# Altium schematic symbol library HerosLib.SchLib: 177 symbols (part 6 of 10)
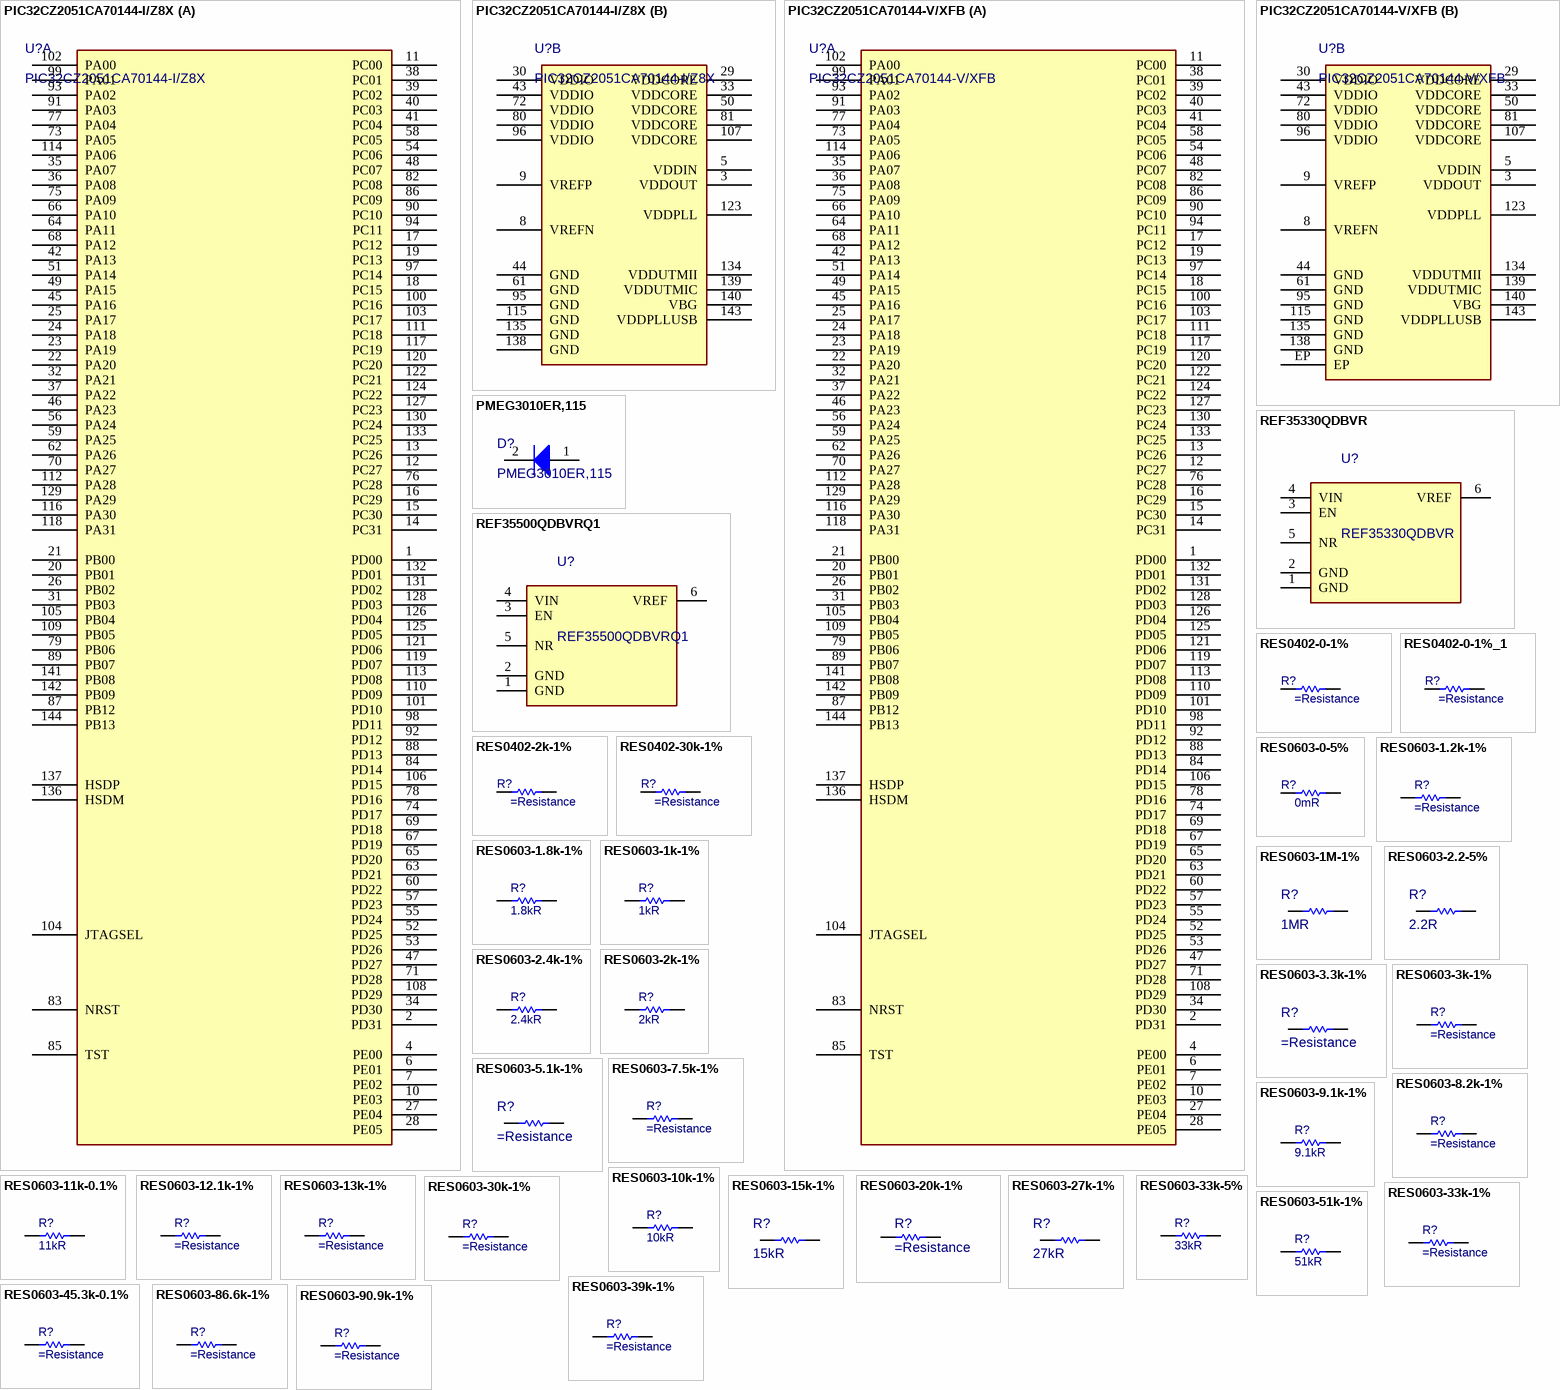
[diagram p13: symbols PIC32CZ2051CA70144-I/Z8X to RES0603-90.9k-1%]

## RES0603-1k-1%
designator R?, comment 1kR
RES SMD 1K OHM 1% 1/10W 0603; Manufacturer: Bourns; Manufacturer Part Number: CR0603-FX-1001ELF; Temperature Coefficient: 100ppm/°C; Voltage Rating (DC): 50V; Power Rating: 100mW; ComponentLink1URL: https://datasheet.ciiva.com/9122/chpreztr-9122363.pdf; ComponentLink1Description: https://datasheet.ciiva.com/9122/chpreztr-9122363.pdf; ComponentLink2URL: https://datasheet.ciiva.com/22713/691949-22713239.pdf?src-supplier=Element14; ComponentLink2Description: https://datasheet.ciiva.com/22713/691949-22713239.pdf?src-supplier=Element14; ComponentLink3URL: https://datasheet.ciiva.com/23776/1902866-23776391.pdf?src-supplier=Newark; ComponentLink3Description: https://datasheet.ciiva.com/23776/1902866-23776391.pdf?src-supplier=Newark; ComponentLink4URL: https://datasheet.ciiva.com/16766/70154685-16766760.pdf?src-supplier=Allied+Electronics; ComponentLink4Description: https://datasheet.ciiva.com/16766/70154685-16766760.pdf?src-supplier=Allied+Electronics; ComponentLink5URL: https://datasheet.ciiva.com/30229/159chpreztr-30229129.pdf?src-supplier=Onlinecomponents.com; ComponentLink5Description: https://datasheet.ciiva.com/30229/159chpreztr-30229129.pdf?src-supplier=Onlinecomponents.com; ComponentLink6URL: https://datasheet.ciiva.com/16935/chpreztr-16935963.pdf?src-supplier=Avnet+Europe; ComponentLink6Description: https://datasheet.ciiva.com/16935/chpreztr-16935963.pdf?src-supplier=Avnet+Europe; ComponentLink7URL: https://datasheet.ciiva.com/5543/chpreztr-5543676.pdf?src-supplier=Mouser; ComponentLink7Description: https://datasheet.ciiva.com/5543/chpreztr-5543676.pdf?src-supplier=Mouser; ComponentLink8URL: https://datasheet.ciiva.com/9120/chpreztr-9120764.pdf?src-supplier=Avnet; ComponentLink8Description: https://datasheet.ciiva.com/9120/chpreztr-9120764.pdf?src-supplier=Avnet; ComponentLink9URL: https://datasheet.ciiva.com/46383/1791942-46383790.pdf?src-supplier=Element14; ComponentLink9Description: https://datasheet.ciiva.com/46383/1791942-46383790.pdf?src-supplier=Element14; ComponentLink10URL: https://datasheet.ciiva.com/48692/001055501-da-01-en-smd-wid-cr0603-jw-104elf-100k-ohm-1-10w-48692133.pdf?src-supplier=Conrad; ComponentLink10Description: https://datasheet.ciiva.com/48692/001055501-da-01-en-smd-wid-cr0603-jw-104elf-100k-ohm-1-10w-48692133.pdf?src-supplier=Conrad; ComponentLink11URL: https://datasheet.ciiva.com/39121/775172-39121475.pdf?src-supplier=Jameco; ComponentLink11Description: https://datasheet.ciiva.com/39121/775172-39121475.pdf?src-supplier=Jameco; ComponentLink12URL: https://datasheet.ciiva.com/30052/159chpreztr-30052709.pdf?src-supplier=Onlinecomponents.com; ComponentLink12Description: https://datasheet.ciiva.com/30052/159chpreztr-30052709.pdf?src-supplier=Onlinecomponents.com; ComponentLink13URL: https://datasheet.ciiva.com/16935/chpreztr-16935910.pdf?src-supplier=Avnet+Europe; ComponentLink13Description: https://datasheet.ciiva.com/16935/chpreztr-16935910.pdf?src-supplier=Avnet+Europe; ComponentLink14URL: https://datasheet.ciiva.com/46383/1791942-46383767.pdf?src-supplier=Element14; ComponentLink14Description: https://datasheet.ciiva.com/46383/1791942-46383767.pdf?src-supplier=Element14; ComponentLink15URL: https://datasheet.ciiva.com/7986/1902866-7986185.pdf?src-supplier=Element14; ComponentLink15Description: https://datasheet.ciiva.com/7986/1902866-7986185.pdf?src-supplier=Element14; ComponentLink16URL: https://datasheet.ciiva.com/6547/chpreztr-6547278.pdf?src-supplier=Digi-Key; ComponentLink16Description: https://datasheet.ciiva.com/6547/chpreztr-6547278.pdf?src-supplier=Digi-Key; ComponentLink17URL: https://datasheet.ciiva.com/6547/chpreztr-6547279.pdf?src-supplier=Digi-Key; ComponentLink17Description: https://datasheet.ciiva.com/6547/chpreztr-6547279.pdf?src-supplier=Digi-Key; ComponentLink18URL: https://datasheet.ciiva.com/16757/70154685-16757477.pdf?src-supplier=Allied+Electronics; ComponentLink18Description: https://datasheet.ciiva.com/16757/70154685-16757477.pdf?src-supplier=Allied+Electronics; ComponentLink19URL: https://datasheet.ciiva.com/22713/691949-22713237.pdf?src-supplier=Element14; ComponentLink19Description: https://datasheet.ciiva.com/22713/691949-22713237.pdf?src-supplier=Element14; ComponentLink20URL: https://datasheet.ciiva.com/6564/chpreztr-6564439.pdf?src-supplier=Digi-Key; ComponentLink20Description: https://datasheet.ciiva.com/6564/chpreztr-6564439.pdf?src-supplier=Digi-Key; ComponentLink21URL: https://datasheet.ciiva.com/16935/chpreztr-16935928.pdf?src-supplier=Avnet+Europe; ComponentLink21Description: https://datasheet.ciiva.com/16935/chpreztr-16935928.pdf?src-supplier=Avnet+Europe; ComponentLink22URL: https://datasheet.ciiva.com/6564/chpreztr-6564441.pdf?src-supplier=Digi-Key; ComponentLink22Description: https://datasheet.ciiva.com/6564/chpreztr-6564441.pdf?src-supplier=Digi-Key; ComponentLink23URL: https://datasheet.ciiva.com/9123/chpreztr-9123706.pdf?src-supplier=Avnet; ComponentLink23Description: https://datasheet.ciiva.com/9123/chpreztr-9123706.pdf?src-supplier=Avnet; ComponentLink24URL: https://datasheet.ciiva.com/7986/1902866-7986188.pdf?src-supplier=Element14; ComponentLink24Description: https://datasheet.ciiva.com/7986/1902866-7986188.pdf?src-supplier=Element14; ComponentLink25URL: https://datasheet.ciiva.com/46383/691949-46383788.pdf?src-supplier=Element14; ComponentLink25Description: https://datasheet.ciiva.com/46383/691949-46383788.pdf?src-supplier=Element14; Supplier 1: Digi-Key; RoHS: Yes; Category: Chip SMD Resistors; Stock 1: 311414; Pricing 1: 1=0,10000, 10=0,01600, 100=0,00650, 1000=0,00292, 2500=0,00253 (USD); Mount: Surface Mount; Case/Package: 0603; Number of Pins: 2; Contact Plating: Tin; Case Code (Metric): 1608; Case Code (Imperial): 0603; Min Operating Temperature: -55°C; Max Operating Temperature: 155°C; Resistance: 1kR; Tolerance: 1%; Composition: Thick Film; Military Standard: Not; Packaging: Tape and Reel; Voltage Rating: 50V; Package Quantity: 1; Max Power Dissipation: 100mW; Features: Moisture Resistant; Number of Terminations: 2; Termination: SMD/SMT; Working Voltage: 50V; Length: 1.6mm; Height: 0.45mm; Depth: 0.8mm; Thickness: 457um; Width: 0.8mm; Radiation Hardening: No; REACH SVHC: No SVHC; ComponentLink26URL: https://datasheet.ciiva.com/11808/0900766b80fcdb72-11808035.pdf?src-supplier=RSComponents; ComponentLink26Description: https://datasheet.ciiva.com/11808/0900766b80fcdb72-11808035.pdf?src-supplier=RSComponents; ComponentLink27URL: https://datasheet.ciiva.com/19466/774882-19466523.pdf?src-supplier=Jameco; ComponentLink27Description: https://datasheet.ciiva.com/19466/774882-19466523.pdf?src-supplier=Jameco; ComponentLink28URL: https://datasheet.ciiva.com/6547/chpreztr-6547349.pdf?src-supplier=Digi-Key; ComponentLink28Description: https://datasheet.ciiva.com/6547/chpreztr-6547349.pdf?src-supplier=Digi-Key; ComponentLink29URL: https://datasheet.ciiva.com/16941/chpreztr-16941637.pdf?src-supplier=Avnet+Europe; ComponentLink29Description: https://datasheet.ciiva.com/16941/chpreztr-16941637.pdf?src-supplier=Avnet+Europe; ComponentLink30URL: https://datasheet.ciiva.com/22693/1902866-22693205.pdf?src-supplier=Element14; ComponentLink30Description: https://datasheet.ciiva.com/22693/1902866-22693205.pdf?src-supplier=Element14; ComponentLink31URL: https://datasheet.ciiva.com/6547/chpreztr-6547350.pdf?src-supplier=Digi-Key; ComponentLink31Description: https://datasheet.ciiva.com/6547/chpreztr-6547350.pdf?src-supplier=Digi-Key; ComponentLink32URL: https://datasheet.ciiva.com/7001/1902866-7001622.pdf?src-supplier=Newark; ComponentLink32Description: https://datasheet.ciiva.com/7001/1902866-7001622.pdf?src-supplier=Newark; ComponentLink33URL: https://datasheet.ciiva.com/30115/159chpreztr-30115222.pdf?src-supplier=Onlinecomponents.com; ComponentLink33Description: https://datasheet.ciiva.com/30115/159chpreztr-30115222.pdf?src-supplier=Onlinecomponents.com; ComponentLink34URL: https://datasheet.ciiva.com/6547/chpreztr-6547351.pdf?src-supplier=Digi-Key; ComponentLink34Description: https://datasheet.ciiva.com/6547/chpreztr-6547351.pdf?src-supplier=Digi-Key; ComponentLink35URL: https://datasheet.ciiva.com/16757/70154685-16757482.pdf?src-supplier=Allied+Electronics; ComponentLink35Description: https://datasheet.ciiva.com/16757/70154685-16757482.pdf?src-supplier=Allied+Electronics; ComponentLink36URL: https://datasheet.ciiva.com/5546/chpreztr-5546283.pdf?src-supplier=Mouser; ComponentLink36Description: https://datasheet.ciiva.com/5546/chpreztr-5546283.pdf?src-supplier=Mouser; ComponentLink37URL: https://datasheet.ciiva.com/7986/691949-7986156.pdf?src-supplier=Element14; ComponentLink37Description: https://datasheet.ciiva.com/7986/691949-7986156.pdf?src-supplier=Element14; ComponentLink38URL: https://datasheet.ciiva.com/3255/chpreztr-3255917.pdf?src-supplier=Avnet; ComponentLink38Description: https://datasheet.ciiva.com/3255/chpreztr-3255917.pdf?src-supplier=Avnet; Supplier Part Number 1: CR0603-FX-1001ELFCT-ND
footprint R0603 (Chip Resistor, 2-Leads, Body 1.75x0.95mm)
pins: 1, 2

## RES0603-1M-1%
designator R?, comment 1MR
RES SMD 1M OHM 1% 1/10W 0603; Manufacturer: Vishay Dale; Manufacturer Part Number: CRCW06031M00FKEB; Power Rating: 100mW; Voltage Rating: 75V; Temperature Coefficient: 100ppm/°C; Supplier 1: Digi-Key; RoHS: Yes; Category: Chip SMD Resistors; Stock 1: 2624; Pricing 1: 1=0.10000, 10=0.03600, 100=0.01450, 1000=0.00652, 2500=0.00566, 5000=0.00468 (USD); Case/Package: 0603; Number of Pins: 2; Weight: 7.1E-05oz; Case Code (Imperial): 0603; Case Code (Metric): 1608; Contact Plating: Tin; Size Code: 0603; Min Operating Temperature: -55°C; Max Operating Temperature: 155°C; Tolerance: 1%; Resistance: 1MR; Packaging: Tape and Reel; Package Quantity: 10000; Resistor Type: Thick Film; Termination: SMD/SMT; Number of Terminations: 2; Max Power Dissipation: 100mW; Voltage Rating (DC): 75V; Features: Automotive AEC-Q200; Series: CRCW; Construction: Rectangular; Resistance Tolerance: 1%; Length: 1.55mm; Width: 0.85mm; Height: 0.02inch; Depth: 0.85mm; Radiation Hardening: No; Lead Free: Lead Free; RoHS Compliant: Yes; REACH SVHC: Unknown; Military Standard: Not; ComponentLink1URL: https://datasheet.ciiva.com/5543/dcrcwe3-109170-5543738.pdf?src-supplier=Mouser; ComponentLink1Description: https://datasheet.ciiva.com/5543/dcrcwe3-109170-5543738.pdf?src-supplier=Mouser; Supplier Part Number 1: 541-CRCW06031M00FKEBCT-ND
footprint R0603 (Chip Resistor, 2-Leads, Body 1.75x0.95mm)
pins: 1, 2

## RES0603-2.2-5%
designator R?, comment 2.2R
RES SMD 2.2 OHM 5% 1/10W 0603; Manufacturer: Panasonic; Manufacturer Part Number: ERJ-3GEYJ2R2V; Temperature Coefficient: 600ppm/°C; Max Power Dissipation: 100mW; Voltage Rating: 75V; Voltage Rating (DC): 50V; Supplier 1: Digi-Key; RoHS: Yes; Category: Chip SMD Resistors; Stock 1: 2962101; Pricing 1: 1=0.10000, 10=0.05000, 100=0.02020, 1000=0.00905, 2500=0.00786 (USD); Mount: Surface Mount; Case/Package: 0603; Contact Plating: Tin; Case Code (Imperial): 0603; Case Code (Metric): 1608; Min Operating Temperature: -55°C; Max Operating Temperature: 155°C; Tolerance: 5%; Resistor Type: Thick Film; Packaging: Tape and Reel; Package Quantity: 1; Resistance: 2.2R; Power Rating: 100mW; Number of Terminations: 2; Termination: SMD/SMT; Features: Automotive AEC-Q200; Series: ERJ; Resistance Tolerance: 5%; Construction: Rectangular; Technology: THICK FILM; Length: 1.6mm; Width: 0.8mm; Height: 0.45mm; Depth: 0.8mm; Radiation Hardening: No; REACH SVHC: No SVHC; Military Standard: Not; Lead Free: Lead Free; RoHS Compliant: Yes; ComponentLink1URL: https://datasheet.ciiva.com/11821/0900766b80f806dd-11821449.pdf?src-supplier=RSComponents; ComponentLink1Description: https://datasheet.ciiva.com/11821/0900766b80f806dd-11821449.pdf?src-supplier=RSComponents; ComponentLink2URL: https://datasheet.ciiva.com/46374/1500035-46374005.pdf?src-supplier=Element14; ComponentLink2Description: https://datasheet.ciiva.com/46374/1500035-46374005.pdf?src-supplier=Element14; ComponentLink3URL: https://datasheet.ciiva.com/9117/aoa0000ce1-9117159.pdf?src-supplier=Avnet; ComponentLink3Description: https://datasheet.ciiva.com/9117/aoa0000ce1-9117159.pdf?src-supplier=Avnet; ComponentLink4URL: https://datasheet.ciiva.com/24025/aoa0000ce1-37422-24025463.pdf?src-supplier=Mouser; ComponentLink4Description: https://datasheet.ciiva.com/24025/aoa0000ce1-37422-24025463.pdf?src-supplier=Mouser; ComponentLink5URL: https://datasheet.ciiva.com/16765/70255313-16765018.pdf?src-supplier=Allied+Electronics; ComponentLink5Description: https://datasheet.ciiva.com/16765/70255313-16765018.pdf?src-supplier=Allied+Electronics; ComponentLink6URL: https://datasheet.ciiva.com/30150/4aoa0000ce1-30150090.pdf?src-supplier=Onlinecomponents.com; ComponentLink6Description: https://datasheet.ciiva.com/30150/4aoa0000ce1-30150090.pdf?src-supplier=Onlinecomponents.com; ComponentLink7URL: https://datasheet.ciiva.com/46386/1500035-46386764.pdf?src-supplier=Element14; ComponentLink7Description: https://datasheet.ciiva.com/46386/1500035-46386764.pdf?src-supplier=Element14; ComponentLink8URL: https://datasheet.ciiva.com/16762/70255313-16762317.pdf?src-supplier=Allied+Electronics; ComponentLink8Description: https://datasheet.ciiva.com/16762/70255313-16762317.pdf?src-supplier=Allied+Electronics; ComponentLink9URL: https://datasheet.ciiva.com/17214/aoa0000ce1-17214157.pdf?src-supplier=Avnet+Europe; ComponentLink9Description: https://datasheet.ciiva.com/17214/aoa0000ce1-17214157.pdf?src-supplier=Avnet+Europe; Supplier Part Number 1: P2.2GCT-ND
footprint R0603 (Chip Resistor, 2-Leads, Body 1.75x0.95mm)
pins: 1, 2

## RES0603-2.4k-1%
designator R?, comment 2.4kR
RES 2.4K OHM 1% 1/5W 0603; Manufacturer: Yageo Group; Manufacturer Part Number: AC0603FR-7W2K4L; Power Dissipation: 200mW; Value: 2.4kΩ; Temperature Coefficient: 100ppm/°C; Voltage Rating: 75V; Resistance: 2.4kR; Supplier 1: DigiKey; Supplier Part Number 1: 13-AC0603FR-7W2K4LTR-ND; Supplier: DigiKey; Supplier Part Number: 13-AC0603FR-7W2K4LTR-ND; RoHS: Compliant; Category: Chip SMD Resistors; Pricing: 5000=0,0064 (USD); Case/Package: 0603; China RoHS: Non-Compliant; Composition: Thick Film; Height: 450µm; Lifecycle Status: Production; Max Operating Temperature: 155°C; Min Operating Temperature: -55°C; Mounting Technology: Surface Mount; Number of Terminals: 2; Packaging: Tape & Reel; Power Rating: 200mW; REACH SVHC: Yes; Tolerance: 1%; Width: 800µm; Working Voltage: 75V; ComponentLink1URL: https://datasheet.octopart.com:443/AC0603FR-7W2K4L-Yageo-datasheet-182189377.pdf?src-supplier=IHS; ComponentLink1Description: https://datasheet.octopart.com:443/AC0603FR-7W2K4L-Yageo-datasheet-182189377.pdf?src-supplier=IHS; ComponentLink2URL: https://datasheet.octopart.com:443/AC0603FR-7W2K4L-Yageo-datasheet-86786639.pdf?src-supplier=Upverter; ComponentLink2Description: https://datasheet.octopart.com:443/AC0603FR-7W2K4L-Yageo-datasheet-86786639.pdf?src-supplier=Upverter; ComponentLink3URL: https://datasheet.octopart.com/AC0603FR-7W2K4L-Yageo-datasheet-12512238.pdf; ComponentLink3Description: https://datasheet.octopart.com/AC0603FR-7W2K4L-Yageo-datasheet-12512238.pdf; ComponentLink4URL: http://sigma.octopart.com:80/rohs_statement/Yageo-company-2.pdf?src-supplier=Compliance+Statements; ComponentLink4Description: http://sigma.octopart.com:80/rohs_statement/Yageo-company-2.pdf?src-supplier=Compliance+Statements; ComponentLink5URL: http://sigma.octopart.com:80/conflict_mineral_statement/Yageo-company-3.pdf?src-supplier=Compliance+Statements; ComponentLink5Description: http://sigma.octopart.com:80/conflict_mineral_statement/Yageo-company-3.pdf?src-supplier=Compliance+Statements
footprint R0603 (Chip Resistor, 2-Leads, Body 1.75x0.95mm)
pins: 1, 2

## RES0603-2k-1%
designator R?, comment 2kR
RES SMD 2K OHM 1% 1/10W 0603; Manufacturer: Bourns; Manufacturer Part Number: CR0603-FX-2001ELF; Voltage Rating (DC): 50V; Temperature Coefficient: 100ppm/°C; Max Power Dissipation: 100mW; ComponentLink1URL: https://datasheet.ciiva.com/9122/chpreztr-9122363.pdf; ComponentLink1Description: https://datasheet.ciiva.com/9122/chpreztr-9122363.pdf; ComponentLink2URL: https://datasheet.ciiva.com/22713/691949-22713239.pdf?src-supplier=Element14; ComponentLink2Description: https://datasheet.ciiva.com/22713/691949-22713239.pdf?src-supplier=Element14; ComponentLink3URL: https://datasheet.ciiva.com/23776/1902866-23776391.pdf?src-supplier=Newark; ComponentLink3Description: https://datasheet.ciiva.com/23776/1902866-23776391.pdf?src-supplier=Newark; ComponentLink4URL: https://datasheet.ciiva.com/16766/70154685-16766760.pdf?src-supplier=Allied+Electronics; ComponentLink4Description: https://datasheet.ciiva.com/16766/70154685-16766760.pdf?src-supplier=Allied+Electronics; ComponentLink5URL: https://datasheet.ciiva.com/30229/159chpreztr-30229129.pdf?src-supplier=Onlinecomponents.com; ComponentLink5Description: https://datasheet.ciiva.com/30229/159chpreztr-30229129.pdf?src-supplier=Onlinecomponents.com; ComponentLink6URL: https://datasheet.ciiva.com/16935/chpreztr-16935963.pdf?src-supplier=Avnet+Europe; ComponentLink6Description: https://datasheet.ciiva.com/16935/chpreztr-16935963.pdf?src-supplier=Avnet+Europe; ComponentLink7URL: https://datasheet.ciiva.com/5543/chpreztr-5543676.pdf?src-supplier=Mouser; ComponentLink7Description: https://datasheet.ciiva.com/5543/chpreztr-5543676.pdf?src-supplier=Mouser; ComponentLink8URL: https://datasheet.ciiva.com/9120/chpreztr-9120764.pdf?src-supplier=Avnet; ComponentLink8Description: https://datasheet.ciiva.com/9120/chpreztr-9120764.pdf?src-supplier=Avnet; ComponentLink9URL: https://datasheet.ciiva.com/46383/1791942-46383790.pdf?src-supplier=Element14; ComponentLink9Description: https://datasheet.ciiva.com/46383/1791942-46383790.pdf?src-supplier=Element14; ComponentLink10URL: https://datasheet.ciiva.com/48692/001055501-da-01-en-smd-wid-cr0603-jw-104elf-100k-ohm-1-10w-48692133.pdf?src-supplier=Conrad; ComponentLink10Description: https://datasheet.ciiva.com/48692/001055501-da-01-en-smd-wid-cr0603-jw-104elf-100k-ohm-1-10w-48692133.pdf?src-supplier=Conrad; ComponentLink11URL: https://datasheet.ciiva.com/39121/775172-39121475.pdf?src-supplier=Jameco; ComponentLink11Description: https://datasheet.ciiva.com/39121/775172-39121475.pdf?src-supplier=Jameco; ComponentLink12URL: https://datasheet.ciiva.com/30052/159chpreztr-30052709.pdf?src-supplier=Onlinecomponents.com; ComponentLink12Description: https://datasheet.ciiva.com/30052/159chpreztr-30052709.pdf?src-supplier=Onlinecomponents.com; ComponentLink13URL: https://datasheet.ciiva.com/16935/chpreztr-16935910.pdf?src-supplier=Avnet+Europe; ComponentLink13Description: https://datasheet.ciiva.com/16935/chpreztr-16935910.pdf?src-supplier=Avnet+Europe; ComponentLink14URL: https://datasheet.ciiva.com/46383/1791942-46383767.pdf?src-supplier=Element14; ComponentLink14Description: https://datasheet.ciiva.com/46383/1791942-46383767.pdf?src-supplier=Element14; ComponentLink15URL: https://datasheet.ciiva.com/7986/1902866-7986185.pdf?src-supplier=Element14; ComponentLink15Description: https://datasheet.ciiva.com/7986/1902866-7986185.pdf?src-supplier=Element14; ComponentLink16URL: https://datasheet.ciiva.com/6547/chpreztr-6547278.pdf?src-supplier=Digi-Key; ComponentLink16Description: https://datasheet.ciiva.com/6547/chpreztr-6547278.pdf?src-supplier=Digi-Key; ComponentLink17URL: https://datasheet.ciiva.com/6547/chpreztr-6547279.pdf?src-supplier=Digi-Key; ComponentLink17Description: https://datasheet.ciiva.com/6547/chpreztr-6547279.pdf?src-supplier=Digi-Key; ComponentLink18URL: https://datasheet.ciiva.com/16757/70154685-16757477.pdf?src-supplier=Allied+Electronics; ComponentLink18Description: https://datasheet.ciiva.com/16757/70154685-16757477.pdf?src-supplier=Allied+Electronics; ComponentLink19URL: https://datasheet.ciiva.com/22713/691949-22713237.pdf?src-supplier=Element14; ComponentLink19Description: https://datasheet.ciiva.com/22713/691949-22713237.pdf?src-supplier=Element14; ComponentLink20URL: https://datasheet.ciiva.com/6564/chpreztr-6564439.pdf?src-supplier=Digi-Key; ComponentLink20Description: https://datasheet.ciiva.com/6564/chpreztr-6564439.pdf?src-supplier=Digi-Key; ComponentLink21URL: https://datasheet.ciiva.com/16935/chpreztr-16935928.pdf?src-supplier=Avnet+Europe; ComponentLink21Description: https://datasheet.ciiva.com/16935/chpreztr-16935928.pdf?src-supplier=Avnet+Europe; ComponentLink22URL: https://datasheet.ciiva.com/6564/chpreztr-6564441.pdf?src-supplier=Digi-Key; ComponentLink22Description: https://datasheet.ciiva.com/6564/chpreztr-6564441.pdf?src-supplier=Digi-Key; ComponentLink23URL: https://datasheet.ciiva.com/9123/chpreztr-9123706.pdf?src-supplier=Avnet; ComponentLink23Description: https://datasheet.ciiva.com/9123/chpreztr-9123706.pdf?src-supplier=Avnet; ComponentLink24URL: https://datasheet.ciiva.com/7986/1902866-7986188.pdf?src-supplier=Element14; ComponentLink24Description: https://datasheet.ciiva.com/7986/1902866-7986188.pdf?src-supplier=Element14; ComponentLink25URL: https://datasheet.ciiva.com/46383/691949-46383788.pdf?src-supplier=Element14; ComponentLink25Description: https://datasheet.ciiva.com/46383/691949-46383788.pdf?src-supplier=Element14; ComponentLink26URL: https://datasheet.ciiva.com/11808/0900766b80fcdb72-11808035.pdf?src-supplier=RSComponents; ComponentLink26Description: https://datasheet.ciiva.com/11808/0900766b80fcdb72-11808035.pdf?src-supplier=RSComponents; ComponentLink27URL: https://datasheet.ciiva.com/19466/774882-19466523.pdf?src-supplier=Jameco; ComponentLink27Description: https://datasheet.ciiva.com/19466/774882-19466523.pdf?src-supplier=Jameco; ComponentLink28URL: https://datasheet.ciiva.com/6547/chpreztr-6547349.pdf?src-supplier=Digi-Key; ComponentLink28Description: https://datasheet.ciiva.com/6547/chpreztr-6547349.pdf?src-supplier=Digi-Key; ComponentLink29URL: https://datasheet.ciiva.com/16941/chpreztr-16941637.pdf?src-supplier=Avnet+Europe; ComponentLink29Description: https://datasheet.ciiva.com/16941/chpreztr-16941637.pdf?src-supplier=Avnet+Europe; ComponentLink30URL: https://datasheet.ciiva.com/22693/1902866-22693205.pdf?src-supplier=Element14; ComponentLink30Description: https://datasheet.ciiva.com/22693/1902866-22693205.pdf?src-supplier=Element14; ComponentLink31URL: https://datasheet.ciiva.com/6547/chpreztr-6547350.pdf?src-supplier=Digi-Key; ComponentLink31Description: https://datasheet.ciiva.com/6547/chpreztr-6547350.pdf?src-supplier=Digi-Key; ComponentLink32URL: https://datasheet.ciiva.com/7001/1902866-7001622.pdf?src-supplier=Newark; ComponentLink32Description: https://datasheet.ciiva.com/7001/1902866-7001622.pdf?src-supplier=Newark; ComponentLink33URL: https://datasheet.ciiva.com/30115/159chpreztr-30115222.pdf?src-supplier=Onlinecomponents.com; ComponentLink33Description: https://datasheet.ciiva.com/30115/159chpreztr-30115222.pdf?src-supplier=Onlinecomponents.com; ComponentLink34URL: https://datasheet.ciiva.com/6547/chpreztr-6547351.pdf?src-supplier=Digi-Key; ComponentLink34Description: https://datasheet.ciiva.com/6547/chpreztr-6547351.pdf?src-supplier=Digi-Key; ComponentLink35URL: https://datasheet.ciiva.com/16757/70154685-16757482.pdf?src-supplier=Allied+Electronics; ComponentLink35Description: https://datasheet.ciiva.com/16757/70154685-16757482.pdf?src-supplier=Allied+Electronics; ComponentLink36URL: https://datasheet.ciiva.com/5546/chpreztr-5546283.pdf?src-supplier=Mouser; ComponentLink36Description: https://datasheet.ciiva.com/5546/chpreztr-5546283.pdf?src-supplier=Mouser; ComponentLink37URL: https://datasheet.ciiva.com/7986/691949-7986156.pdf?src-supplier=Element14; ComponentLink37Description: https://datasheet.ciiva.com/7986/691949-7986156.pdf?src-supplier=Element14; ComponentLink38URL: https://datasheet.ciiva.com/3255/chpreztr-3255917.pdf?src-supplier=Avnet; ComponentLink38Description: https://datasheet.ciiva.com/3255/chpreztr-3255917.pdf?src-supplier=Avnet; ComponentLink39URL: https://datasheet.ciiva.com/5547/chpreztr-5547814.pdf?src-supplier=Mouser; ComponentLink39Description: https://datasheet.ciiva.com/5547/chpreztr-5547814.pdf?src-supplier=Mouser; ComponentLink40URL: https://datasheet.ciiva.com/18594/chpreztr-18594942.pdf?src-supplier=Digi-Key; ComponentLink40Description: https://datasheet.ciiva.com/18594/chpreztr-18594942.pdf?src-supplier=Digi-Key; ComponentLink41URL: https://datasheet.ciiva.com/18594/chpreztr-18594943.pdf?src-supplier=Digi-Key; ComponentLink41Description: https://datasheet.ciiva.com/18594/chpreztr-18594943.pdf?src-supplier=Digi-Key; ComponentLink42URL: https://datasheet.ciiva.com/18608/chpreztr-18608133.pdf?src-supplier=Digi-Key; ComponentLink42Description: https://datasheet.ciiva.com/18608/chpreztr-18608133.pdf?src-supplier=Digi-Key; ComponentLink43URL: https://datasheet.ciiva.com/18608/chpreztr-18608134.pdf?src-supplier=Digi-Key; ComponentLink43Description: https://datasheet.ciiva.com/18608/chpreztr-18608134.pdf?src-supplier=Digi-Key; ComponentLink44URL: https://datasheet.ciiva.com/16939/chpreztr-16939323.pdf?src-supplier=Avnet+Europe; ComponentLink44Description: https://datasheet.ciiva.com/16939/chpreztr-16939323.pdf?src-supplier=Avnet+Europe; ComponentLink45URL: https://datasheet.ciiva.com/5541/chpreztr-5541071.pdf?src-supplier=Mouser; ComponentLink45Description: https://datasheet.ciiva.com/5541/chpreztr-5541071.pdf?src-supplier=Mouser; ComponentLink46URL: https://datasheet.ciiva.com/11808/0900766b80fcdb72-11808032.pdf?src-supplier=RSComponents; ComponentLink46Description: https://datasheet.ciiva.com/11808/0900766b80fcdb72-11808032.pdf?src-supplier=RSComponents; ComponentLink47URL: https://datasheet.ciiva.com/27049/774903-27049975.pdf?src-supplier=Jameco; ComponentLink47Description: https://datasheet.ciiva.com/27049/774903-27049975.pdf?src-supplier=Jameco; ComponentLink48URL: https://datasheet.ciiva.com/22693/1902866-22693206.pdf?src-supplier=Element14; ComponentLink48Description: https://datasheet.ciiva.com/22693/1902866-22693206.pdf?src-supplier=Element14; ComponentLink49URL: https://datasheet.ciiva.com/7001/1902866-7001623.pdf?src-supplier=Newark; ComponentLink49Description: https://datasheet.ciiva.com/7001/1902866-7001623.pdf?src-supplier=Newark; ComponentLink50URL: https://datasheet.ciiva.com/16757/70154685-16757483.pdf?src-supplier=Allied+Electronics; ComponentLink50Description: https://datasheet.ciiva.com/16757/70154685-16757483.pdf?src-supplier=Allied+Electronics; ComponentLink51URL: https://datasheet.ciiva.com/22644/1849498-22644171.pdf?src-supplier=Element14; ComponentLink51Description: https://datasheet.ciiva.com/22644/1849498-22644171.pdf?src-supplier=Element14; ComponentLink52URL: https://datasheet.ciiva.com/16938/chpreztr-16938733.pdf?src-supplier=Avnet+Europe; ComponentLink52Description: https://datasheet.ciiva.com/16938/chpreztr-16938733.pdf?src-supplier=Avnet+Europe; ComponentLink53URL: https://datasheet.ciiva.com/3255/chpreztr-3255918.pdf?src-supplier=Avnet; ComponentLink53Description: https://datasheet.ciiva.com/3255/chpreztr-3255918.pdf?src-supplier=Avnet; ComponentLink54URL: https://datasheet.ciiva.com/5548/chpreztr-5548911.pdf?src-supplier=Mouser; ComponentLink54Description: https://datasheet.ciiva.com/5548/chpreztr-5548911.pdf?src-supplier=Mouser; Supplier 1: Digi-Key; RoHS: Yes; Category: Chip SMD Resistors; Stock 1: 73021; Pricing 1: 1=0,10000, 10=0,01900, 100=0,00780, 1000=0,00350, 2500=0,00304 (USD); Mount: Surface Mount; Case/Package: 0603; Number of Pins: 2; Case Code (Metric): 1608; Case Code (Imperial): 0603; Contact Plating: Tin; Min Operating Temperature: -55°C; Max Operating Temperature: 155°C; Features: Moisture Resistant; Composition: Thick Film; Number of Terminations: 2; Termination: SMD/SMT; Military Standard: Not; Resistance: 2kR; Tolerance: 1%; Power Rating: 100mW; Voltage Rating: 50V; Packaging: Tape and Reel; Package Quantity: 1; Length: 1.6mm; Height: 0.45mm; Thickness: 457um; Depth: 0.8mm; Width: 0.8mm; Radiation Hardening: No; REACH SVHC: No SVHC; ComponentLink55URL: https://datasheet.ciiva.com/3884/40997553s6788479n1506-3884650.pdf?src-supplier=Arrow; ComponentLink55Description: https://datasheet.ciiva.com/3884/40997553s6788479n1506-3884650.pdf?src-supplier=Arrow; ComponentLink56URL: https://datasheet.ciiva.com/27747/1163784-27747630.pdf?src-supplier=Jameco; ComponentLink56Description: https://datasheet.ciiva.com/27747/1163784-27747630.pdf?src-supplier=Jameco; ComponentLink57URL: https://datasheet.ciiva.com/11812/0900766b80fcdb72-11812645.pdf?src-supplier=RSComponents; ComponentLink57Description: https://datasheet.ciiva.com/11812/0900766b80fcdb72-11812645.pdf?src-supplier=RSComponents; ComponentLink58URL: https://datasheet.ciiva.com/41449/001055490-da-01-en-smd-wid-cr0603-fx-2001elf-2k-ohm-1-10w-41449970.pdf?src-supplier=Conrad; ComponentLink58Description: https://datasheet.ciiva.com/41449/001055490-da-01-en-smd-wid-cr0603-fx-2001elf-2k-ohm-1-10w-41449970.pdf?src-supplier=Conrad; ComponentLink59URL: https://datasheet.ciiva.com/7660/1856384-7660951.pdf?src-supplier=Element14; ComponentLink59Description: https://datasheet.ciiva.com/7660/1856384-7660951.pdf?src-supplier=Element14; ComponentLink60URL: https://datasheet.ciiva.com/22693/1902866-22693210.pdf?src-supplier=Element14; ComponentLink60Description: https://datasheet.ciiva.com/22693/1902866-22693210.pdf?src-supplier=Element14; ComponentLink61URL: https://datasheet.ciiva.com/6564/chpreztr-6564378.pdf?src-supplier=Digi-Key; ComponentLink61Description: https://datasheet.ciiva.com/6564/chpreztr-6564378.pdf?src-supplier=Digi-Key; ComponentLink62URL: https://datasheet.ciiva.com/6564/chpreztr-6564379.pdf?src-supplier=Digi-Key; ComponentLink62Description: https://datasheet.ciiva.com/6564/chpreztr-6564379.pdf?src-supplier=Digi-Key; ComponentLink63URL: https://datasheet.ciiva.com/6564/chpreztr-6564380.pdf?src-supplier=Digi-Key; ComponentLink63Description: https://datasheet.ciiva.com/6564/chpreztr-6564380.pdf?src-supplier=Digi-Key; ComponentLink64URL: https://datasheet.ciiva.com/5547/chpreztr-5547487.pdf?src-supplier=Mouser; ComponentLink64Description: https://datasheet.ciiva.com/5547/chpreztr-5547487.pdf?src-supplier=Mouser; Supplier Part Number 1: CR0603-FX-2001ELFCT-ND
footprint R0603 (Chip Resistor, 2-Leads, Body 1.75x0.95mm)
pins: 1, 2

## RES0603-3.3k-1%
designator R?
RES 3.3K OHM 1% 1/5W 0603; Manufacturer: Yageo Group; Manufacturer Part Number: AC0603FR-7W3K3L; Resistance: 3.3kΩ; Power Dissipation: 200mW; Value: 3.3kΩ; Temperature Coefficient: 100ppm/°C; Voltage Rating: 75V; Supplier 1: DigiKey; Supplier Part Number 1: 13-AC0603FR-7W3K3LTR-ND; Supplier: DigiKey; Supplier Part Number: 13-AC0603FR-7W3K3LTR-ND; RoHS: Compliant; Category: Chip SMD Resistors; Pricing: 5000=0,0064 (USD); Case/Package: 0603; China RoHS: Non-Compliant; Composition: Thick Film; Height: 450µm; Lifecycle Status: Production; Max Operating Temperature: 155°C; Min Operating Temperature: -55°C; Mounting Technology: Surface Mount; Number of Terminals: 2; Packaging: Tape & Reel; Power Rating: 200mW; REACH SVHC: Yes; Tolerance: 1%; Width: 800µm; Working Voltage: 75V; ComponentLink1URL: https://datasheet.octopart.com:443/AC0603FR-7W3K3L-Yageo-datasheet-182189377.pdf?src-supplier=IHS; ComponentLink1Description: https://datasheet.octopart.com:443/AC0603FR-7W3K3L-Yageo-datasheet-182189377.pdf?src-supplier=IHS; ComponentLink2URL: https://datasheet.octopart.com:443/AC0603FR-7W3K3L-Yageo-datasheet-86786639.pdf?src-supplier=Upverter; ComponentLink2Description: https://datasheet.octopart.com:443/AC0603FR-7W3K3L-Yageo-datasheet-86786639.pdf?src-supplier=Upverter; ComponentLink3URL: https://datasheet.octopart.com/AC0603FR-7W3K3L-Yageo-datasheet-12512238.pdf; ComponentLink3Description: https://datasheet.octopart.com/AC0603FR-7W3K3L-Yageo-datasheet-12512238.pdf; ComponentLink4URL: http://sigma.octopart.com:80/rohs_statement/Yageo-company-2.pdf?src-supplier=Compliance+Statements; ComponentLink4Description: http://sigma.octopart.com:80/rohs_statement/Yageo-company-2.pdf?src-supplier=Compliance+Statements; ComponentLink5URL: http://sigma.octopart.com:80/conflict_mineral_statement/Yageo-company-3.pdf?src-supplier=Compliance+Statements; ComponentLink5Description: http://sigma.octopart.com:80/conflict_mineral_statement/Yageo-company-3.pdf?src-supplier=Compliance+Statements
footprint R0603 (Chip Resistor, 2-Leads, Body 1.75x0.95mm)
pins: 1, 2

## RES0603-3k-1%
designator R?
RES SMD 3K OHM 1% 1/10W 0603; Manufacturer: Yageo Group; Manufacturer Part Number: RT0603FRE073KL; Resistance: 3kΩ; Power Dissipation: 100mW; Value: 3kΩ; Temperature Coefficient: 50ppm/°C; Voltage Rating: 75V; Voltage Rating (DC): 50V; Supplier 1: DigiKey; Supplier Part Number 1: 13-RT0603FRE073KLCT-ND; Supplier: DigiKey; Supplier Part Number: 13-RT0603FRE073KLCT-ND; RoHS: Compliant; Category: Chip SMD Resistors; Stock: 15979; Pricing: 1=0,1, 10=0,015, 25=0,0148, 50=0,0142, 100=0,0138, 250=0,00808, 1000=0,00764 (USD); Case/Package: 0603; Case Code (Imperial): 0603; China RoHS: Non-Compliant; Composition: Thin Film; Depth: 800µm; Height: 450µm; Lead Free: Lead Free; Length: 1.6mm; Lifecycle Status: Production; Max Operating Temperature: 155°C; Military Standard: Not; Min Operating Temperature: -55°C; Mounting Technology: Surface Mount; Number of Terminals: 2; Power Rating: 100mW; REACH SVHC: Yes; Schedule B: 8533210045, 8533210045|8533210045|8533210045|8533210045|8533210045; Termination: SMD/SMT; Tolerance: 1%; Weight: 2.012816mg; Width: 800µm; Working Voltage: 75V; ComponentLink1URL: https://datasheet.octopart.com:443/RT0603FRE073KL-Yageo-datasheet-176402239.pdf?src-supplier=Newark; ComponentLink1Description: https://datasheet.octopart.com:443/RT0603FRE073KL-Yageo-datasheet-176402239.pdf?src-supplier=Newark; ComponentLink2URL: https://datasheet.octopart.com:443/RT0603FRE073KL-Yageo-datasheet-141265893.pdf?src-supplier=ODG+(Origin+Data+Global); ComponentLink2Description: https://datasheet.octopart.com:443/RT0603FRE073KL-Yageo-datasheet-141265893.pdf?src-supplier=ODG+(Origin+Data+Global); ComponentLink3URL: https://datasheet.octopart.com:443/RT0603FRE073KL-Yageo-datasheet-169971040.pdf?src-supplier=Future+Electronics; ComponentLink3Description: https://datasheet.octopart.com:443/RT0603FRE073KL-Yageo-datasheet-169971040.pdf?src-supplier=Future+Electronics; ComponentLink4URL: https://datasheet.octopart.com:443/RT0603FRE073KL-Yageo-datasheet-166250672.pdf?src-supplier=Future+Electronics; ComponentLink4Description: https://datasheet.octopart.com:443/RT0603FRE073KL-Yageo-datasheet-166250672.pdf?src-supplier=Future+Electronics; ComponentLink5URL: https://datasheet.octopart.com/RT0603FRE073KL-Yageo-datasheet-86813807.pdf; ComponentLink5Description: https://datasheet.octopart.com/RT0603FRE073KL-Yageo-datasheet-86813807.pdf; ComponentLink6URL: http://sigma.octopart.com:80/rohs_statement/Yageo-company-2.pdf?src-supplier=Compliance+Statements; ComponentLink6Description: http://sigma.octopart.com:80/rohs_statement/Yageo-company-2.pdf?src-supplier=Compliance+Statements; ComponentLink7URL: http://sigma.octopart.com:80/conflict_mineral_statement/Yageo-company-3.pdf?src-supplier=Compliance+Statements; ComponentLink7Description: http://sigma.octopart.com:80/conflict_mineral_statement/Yageo-company-3.pdf?src-supplier=Compliance+Statements
footprint R0603 (Chip Resistor, 2-Leads, Body 1.75x0.95mm)
pins: 1, 2

## RES0603-5.1k-1%
designator R?
RES 3.3K OHM 1% 1/5W 0603; Manufacturer: Yageo Group; Manufacturer Part Number: AC0603FR-7W3K3L; Resistance: 3.3kΩ; Power Dissipation: 200mW; Value: 3.3kΩ; Temperature Coefficient: 100ppm/°C; Voltage Rating: 75V; Supplier 1: DigiKey; Supplier Part Number 1: 13-AC0603FR-7W3K3LTR-ND; Supplier: DigiKey; Supplier Part Number: 13-AC0603FR-7W3K3LTR-ND; RoHS: Compliant; Category: Chip SMD Resistors; Pricing: 5000=0,0064 (USD); Case/Package: 0603; China RoHS: Non-Compliant; Composition: Thick Film; Height: 450µm; Lifecycle Status: Production; Max Operating Temperature: 155°C; Min Operating Temperature: -55°C; Mounting Technology: Surface Mount; Number of Terminals: 2; Packaging: Tape & Reel; Power Rating: 200mW; REACH SVHC: Yes; Tolerance: 1%; Width: 800µm; Working Voltage: 75V; ComponentLink1URL: https://datasheet.octopart.com:443/AC0603FR-7W3K3L-Yageo-datasheet-182189377.pdf?src-supplier=IHS; ComponentLink1Description: https://datasheet.octopart.com:443/AC0603FR-7W3K3L-Yageo-datasheet-182189377.pdf?src-supplier=IHS; ComponentLink2URL: https://datasheet.octopart.com:443/AC0603FR-7W3K3L-Yageo-datasheet-86786639.pdf?src-supplier=Upverter; ComponentLink2Description: https://datasheet.octopart.com:443/AC0603FR-7W3K3L-Yageo-datasheet-86786639.pdf?src-supplier=Upverter; ComponentLink3URL: https://datasheet.octopart.com/AC0603FR-7W3K3L-Yageo-datasheet-12512238.pdf; ComponentLink3Description: https://datasheet.octopart.com/AC0603FR-7W3K3L-Yageo-datasheet-12512238.pdf; ComponentLink4URL: http://sigma.octopart.com:80/rohs_statement/Yageo-company-2.pdf?src-supplier=Compliance+Statements; ComponentLink4Description: http://sigma.octopart.com:80/rohs_statement/Yageo-company-2.pdf?src-supplier=Compliance+Statements; ComponentLink5URL: http://sigma.octopart.com:80/conflict_mineral_statement/Yageo-company-3.pdf?src-supplier=Compliance+Statements; ComponentLink5Description: http://sigma.octopart.com:80/conflict_mineral_statement/Yageo-company-3.pdf?src-supplier=Compliance+Statements
footprint R0603 (Chip Resistor, 2-Leads, Body 1.75x0.95mm)
pins: 1, 2

## RES0603-7.5k-1%
designator R?
RES 7.5K OHM 1% 1/10W 0603; Manufacturer: Panasonic; Manufacturer Part Number: ERJ-3EKF7501V; Resistance: 7.5kR; Power Rating: 100mW; Value: 7.5kR; Voltage Rating: 75V; Temperature Coefficient: 100ppm/°C; Voltage Rating (DC): 50V; Supplier: Digikey; Supplier Part Number: P7.50KHCT-ND; RoHS: Yes; Category: Chip SMD Resistors; Stock: 2081; Pricing: 1=0,1, 10=0,034, 100=0,0173, 1000=0,00995, 2500=0,0083 (USD); Mounting Technology: Surface Mount; Case/Package: 0603; Case Code (Imperial): 0603; Case Code (Metric): 1608; Contact Plating: Tin; Min Operating Temperature: -55°C; Max Operating Temperature: 155°C; Tolerance: 1%; Packaging: Tape and Reel; Package Quantity: 1; Resistor Type: Thick Film; Number of Terminations: 2; Termination: SMD/SMT; Max Power Dissipation: 100mW; Features: Automotive AEC-Q200; Series: ERJ; Resistance Tolerance: 1%; Construction: Rectangular; Length: 1.6mm; Width: 0.8mm; Height: 0.022inch; Depth: 0.8mm; Radiation Hardening: No; Reach SVHC Compliant: No; Military Standard: Not; Lead Free: Lead Free; RoHS Compliant: Yes; ComponentLink1URL: https://datasheet.ciiva.com/5868/426256-5868144.pdf?src-supplier=Farnell; ComponentLink1Description: https://datasheet.ciiva.com/5868/426256-5868144.pdf?src-supplier=Farnell; ComponentLink2URL: https://datasheet.ciiva.com/46386/426256-46386763.pdf?src-supplier=Element14; ComponentLink2Description: https://datasheet.ciiva.com/46386/426256-46386763.pdf?src-supplier=Element14; ComponentLink3URL: https://datasheet.ciiva.com/46374/426256-46374006.pdf?src-supplier=Element14; ComponentLink3Description: https://datasheet.ciiva.com/46374/426256-46374006.pdf?src-supplier=Element14; ComponentLink4URL: https://datasheet.ciiva.com/28577/1678782-28577751.pdf?src-supplier=Element14; ComponentLink4Description: https://datasheet.ciiva.com/28577/1678782-28577751.pdf?src-supplier=Element14; ComponentLink5URL: https://datasheet.ciiva.com/28675/1678782-28675813.pdf?src-supplier=Element14; ComponentLink5Description: https://datasheet.ciiva.com/28675/1678782-28675813.pdf?src-supplier=Element14; ComponentLink6URL: https://datasheet.ciiva.com/16769/70260748-16769437.pdf?src-supplier=Allied+Electronics; ComponentLink6Description: https://datasheet.ciiva.com/16769/70260748-16769437.pdf?src-supplier=Allied+Electronics; ComponentLink7URL: https://datasheet.ciiva.com/48531/aoa0000ce2-48531925.pdf?src-supplier=Avnet; ComponentLink7Description: https://datasheet.ciiva.com/48531/aoa0000ce2-48531925.pdf?src-supplier=Avnet; ComponentLink8URL: https://datasheet.ciiva.com/30188/aoa0000ce2-30188582.pdf?src-supplier=Onlinecomponents.com; ComponentLink8Description: https://datasheet.ciiva.com/30188/aoa0000ce2-30188582.pdf?src-supplier=Onlinecomponents.com; Supplier 1: DigiKey; Supplier Part Number 1: 738-RMCF0603FG7K50CT-ND
footprint R0603 (Chip Resistor, 2-Leads, Body 1.75x0.95mm)
pins: 1, 2

## RES0603-8.2k-1%
designator R?
RES SMD 8.2K OHM 1% 1/10W 0603; Manufacturer: Vishay; Manufacturer Part Number: CRCW06038K20FKEC; Resistance: 8.2kΩ; Max Power Dissipation: 100mW; Value: 8.2kΩ; Temperature Coefficient: 100ppm/°C; Voltage Rating: 75V; Supplier: DigiKey; Supplier Part Number: CRCW06038K20FKEC-ND; RoHS: Compliant; Category: Chip SMD Resistors; Pricing: 20000=0,00469 (USD); Case/Package: 0603; China RoHS: Non-Compliant; Composition: Thick Film; Contact Plating: Tin; Depth: 850µm; Features: Automotive AEC-Q200; Height: 450µm; Lead Free: Lead Free; Length: 1.5494mm; Lifecycle Status: Production; Max Operating Temperature: 155°C; Military Standard: Not; Min Operating Temperature: -55°C; Mounting Technology: Surface Mount; Number of Terminals: 2; Number of Terminations: 2; Packaging: Tape and Reel; Power Dissipation: 100mW; Power Rating: 100mW; Radiation Hardening: No; REACH SVHC: Yes; Tolerance: 1%; Width: 850µm; Working Voltage: 75V; ComponentLink1URL: https://datasheet.octopart.com:443/CRCW06038K20FKEC-Vishay-datasheet-175423584.pdf?src-supplier=IHS; ComponentLink1Description: https://datasheet.octopart.com:443/CRCW06038K20FKEC-Vishay-datasheet-175423584.pdf?src-supplier=IHS; ComponentLink2URL: https://datasheet.octopart.com:443/CRCW06038K20FKEC-Vishay-datasheet-62316122.pdf?src-supplier=Upverter; ComponentLink2Description: https://datasheet.octopart.com:443/CRCW06038K20FKEC-Vishay-datasheet-62316122.pdf?src-supplier=Upverter; ComponentLink3URL: https://datasheet.octopart.com/D-CRCW-e3-Standard-Thick-Film-Chip-Resistors-Vishay-datasheet-family-64.pdf; ComponentLink3Description: https://datasheet.octopart.com/D-CRCW-e3-Standard-Thick-Film-Chip-Resistors-Vishay-datasheet-family-64.pdf; ComponentLink4URL: http://sigma.octopart.com:80/rohs_certificate/D-CRCW-e3-Standard-Thick-Film-Chip-Resistors-Vishay-family-102.pdf?src-supplier=Compliance+Statements; ComponentLink4Description: http://sigma.octopart.com:80/rohs_certificate/D-CRCW-e3-Standard-Thick-Film-Chip-Resistors-Vishay-family-102.pdf?src-supplier=Compliance+Statements; Supplier 1: DigiKey; Supplier Part Number 1: CRCW06038K20FKEC-ND
footprint R0603 (Chip Resistor, 2-Leads, Body 1.75x0.95mm)
pins: 1, 2

## RES0603-9.1k-1%
designator R?, comment 9.1kR
RES SMD 9.1K OHM 1% 1/10W 0603; Manufacturer: Bourns; Manufacturer Part Number: CR0603-FX-9101ELF; Max Power Dissipation: 100mW; Value: 9.1kΩ; Temperature Coefficient: 100ppm/°C; Voltage Rating: 75V; Voltage Rating (DC): 50V; Resistance: 9.1kR; ComponentLink1URL: https://datasheet.octopart.com:443/AF0603FR-07470RL-Yageo-datasheet-182189395.pdf?src-supplier=IHS; ComponentLink1Description: https://datasheet.octopart.com:443/AF0603FR-07470RL-Yageo-datasheet-182189395.pdf?src-supplier=IHS; ComponentLink2URL: https://datasheet.octopart.com:443/AF0603FR-07470RL-Yageo-datasheet-153645569.pdf?src-supplier=Upverter; ComponentLink2Description: https://datasheet.octopart.com:443/AF0603FR-07470RL-Yageo-datasheet-153645569.pdf?src-supplier=Upverter; ComponentLink3URL: https://sigma.octopart.com:443/138820526/technical_drawing/Yageo-AF0603FR-07470RL.pdf?src-supplier=Upverter; ComponentLink3Description: https://sigma.octopart.com:443/138820526/technical_drawing/Yageo-AF0603FR-07470RL.pdf?src-supplier=Upverter; ComponentLink4URL: https://datasheet.octopart.com:443/AF0603FR-07470RL-Yageo-datasheet-68296209.pdf?src-supplier=Future+Electronics; ComponentLink4Description: https://datasheet.octopart.com:443/AF0603FR-07470RL-Yageo-datasheet-68296209.pdf?src-supplier=Future+Electronics; ComponentLink5URL: https://datasheet.octopart.com:443/AF0603FR-07470RL-Yageo-datasheet-164730775.pdf?src-supplier=Future+Electronics; ComponentLink5Description: https://datasheet.octopart.com:443/AF0603FR-07470RL-Yageo-datasheet-164730775.pdf?src-supplier=Future+Electronics; ComponentLink6URL: https://datasheet.octopart.com:443/AF0603FR-07470RL-Yageo-datasheet-137315688.pdf?src-supplier=Future+Electronics; ComponentLink6Description: https://datasheet.octopart.com:443/AF0603FR-07470RL-Yageo-datasheet-137315688.pdf?src-supplier=Future+Electronics; ComponentLink7URL: https://datasheet.octopart.com:443/AF0603FR-07470RL-Yageo-datasheet-137481464.pdf?src-supplier=Future+Electronics; ComponentLink7Description: https://datasheet.octopart.com:443/AF0603FR-07470RL-Yageo-datasheet-137481464.pdf?src-supplier=Future+Electronics; ComponentLink8URL: http://sigma.octopart.com:80/conflict_mineral_statement/Yageo-company-3.pdf?src-supplier=Compliance+Statements; ComponentLink8Description: http://sigma.octopart.com:80/conflict_mineral_statement/Yageo-company-3.pdf?src-supplier=Compliance+Statements; ComponentLink9URL: http://sigma.octopart.com:80/rohs_statement/Yageo-company-2.pdf?src-supplier=Compliance+Statements; ComponentLink9Description: http://sigma.octopart.com:80/rohs_statement/Yageo-company-2.pdf?src-supplier=Compliance+Statements; Supplier 1: DigiKey; Supplier Part Number 1: CR0603-FX-9101ELFCT-ND; Supplier: DigiKey; Supplier Part Number: CR0603-FX-9101ELFCT-ND; RoHS: Compliant; Category: Chip SMD Resistors; Stock: 23111; Pricing: 1=0,1, 10=0,025, 25=0,0188, 50=0,015, 100=0,0122, 250=0,00948, 500=0,00794, 1000=0,00671 (USD); Case/Package: 0603; Case Code (Imperial): 0603; Case Code (Metric): 1608; China RoHS: Non-Compliant; Composition: Thick Film; Contact Plating: Tin; Depth: 800µm; Features: Moisture Resistant; Height: 450µm; Lifecycle Status: Production; Max Operating Temperature: 155°C; Military Standard: Not; Min Operating Temperature: -55°C; Mounting Technology: Surface Mount; Number of Terminals: 2; Number of Terminations: 2; Packaging: Tape & Reel; Power Dissipation: 100mW; Power Rating: 100mW; Radiation Hardening: No; REACH SVHC: Yes; Schedule B: 8533210045, 8533210045|8533210045, 8533210045|8533210045|8533210045, 8533210045|8533210045|8533210045|8533210045; Termination: SMD/SMT; Tolerance: 1%; Width: 800µm; Working Voltage: 75V; ComponentLink10URL: https://datasheet.octopart.com:443/CR0603-FX-9101ELF-Bourns-datasheet-159578630.pdf?src-supplier=JRH+Electronics; ComponentLink10Description: https://datasheet.octopart.com:443/CR0603-FX-9101ELF-Bourns-datasheet-159578630.pdf?src-supplier=JRH+Electronics; ComponentLink11URL: https://datasheet.octopart.com:443/CR0603-FX-9101ELF-Bourns-datasheet-181955239.pdf?src-supplier=IHS; ComponentLink11Description: https://datasheet.octopart.com:443/CR0603-FX-9101ELF-Bourns-datasheet-181955239.pdf?src-supplier=IHS; ComponentLink12URL: https://datasheet.octopart.com:443/CR0603-FX-9101ELF-Bourns-datasheet-68301634.pdf?src-supplier=Burklin+Elektronik; ComponentLink12Description: https://datasheet.octopart.com:443/CR0603-FX-9101ELF-Bourns-datasheet-68301634.pdf?src-supplier=Burklin+Elektronik; ComponentLink13URL: https://datasheet.octopart.com/CR0603-FX-9101ELF-Bourns-datasheet-5318152.pdf; ComponentLink13Description: https://datasheet.octopart.com/CR0603-FX-9101ELF-Bourns-datasheet-5318152.pdf; ComponentLink14URL: https://datasheet.octopart.com:443/CR0603-FX-9101ELF-Bourns-datasheet-154729663.pdf?src-supplier=Electro+Sonic; ComponentLink14Description: https://datasheet.octopart.com:443/CR0603-FX-9101ELF-Bourns-datasheet-154729663.pdf?src-supplier=Electro+Sonic; ComponentLink15URL: https://datasheet.octopart.com:443/CR0603-FX-9101ELF-Bourns-datasheet-137067177.pdf?src-supplier=X-ON; ComponentLink15Description: https://datasheet.octopart.com:443/CR0603-FX-9101ELF-Bourns-datasheet-137067177.pdf?src-supplier=X-ON; ComponentLink16URL: https://datasheet.octopart.com:443/CR0603-FX-9101ELF-Bourns-datasheet-140567134.pdf?src-supplier=Arrow.cn; ComponentLink16Description: https://datasheet.octopart.com:443/CR0603-FX-9101ELF-Bourns-datasheet-140567134.pdf?src-supplier=Arrow.cn; ComponentLink17URL: http://sigma.octopart.com:80/conflict_mineral_statement/Bourns-company-36.pdf?src-supplier=Compliance+Statements; ComponentLink17Description: http://sigma.octopart.com:80/conflict_mineral_statement/Bourns-company-36.pdf?src-supplier=Compliance+Statements
footprint R0603 (Chip Resistor, 2-Leads, Body 1.75x0.95mm)
pins: 1, 2